# Altium footprint library QFN50P350X350X100_HS-14L.PcbLib: 1 footprints
Each footprint in its own frame and in the unit in brackets; x right, y up, seen from the top. Pads: shape width x height; smd on the part's side, far side on the other; paste and mask are expansions set on the pad; w line width, h text height; cw(c..) or ccw(c..) is an arc to the next point about the centre after c.
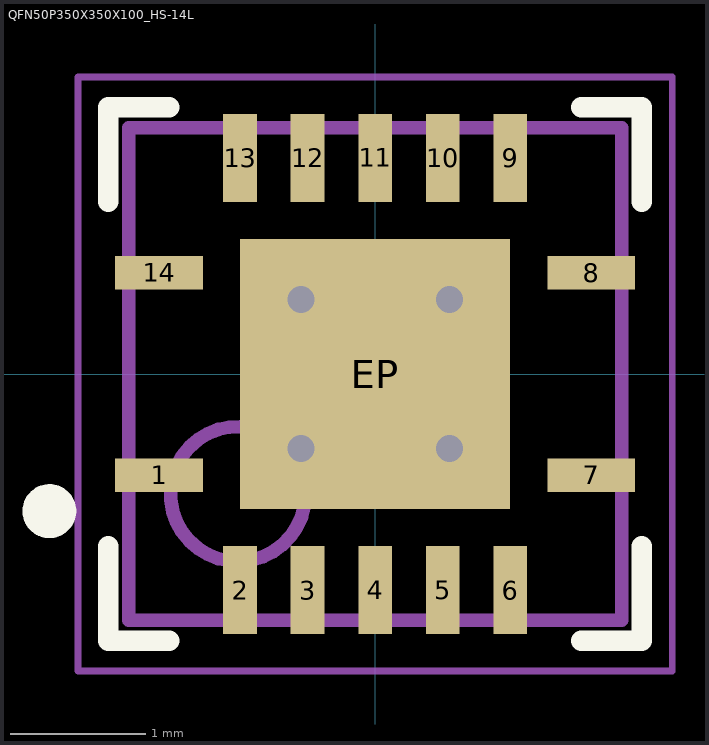
[diagram p0: the footprint, top view; thin cyan lines are the x and y axes]

## QFN50P350X350X100_HS-14L [mm] "QFN, 14-Leads, Body 3.50x3.50mm, Pitch 0.50mm/1.50mm, Thermal Pad 2.00x2.00mm, IPC High Density"
height 1
pads (15):
  rect 0.65x0.25 smd: 1(-1.6,-0.75) 7(1.6,-0.75) 8(1.6,0.75) 14(-1.6,0.75)
  rect 0.25x0.65 smd: 2(-1,-1.6) 3(-0.5,-1.6) 4(0,-1.6) 5(0.5,-1.6) 6(1,-1.6) 9(1,1.6) 10(0.5,1.6) 11(0,1.6) 12(-0.5,1.6) 13(-1,1.6)
  rect 2x2 smd: EP(0,0)
via -0.55,0.55 diameter 0.5 hole 0.2
via 0.55,0.55 diameter 0.5 hole 0.2
via -0.55,-0.55 diameter 0.5 hole 0.2
via 0.55,-0.55 diameter 0.5 hole 0.2
Top Overlay:
  circle w0.2: c-2.413,-1.016 r0.1
  lines w0.152: -1.975,-1.275 -1.975,-1.975 -1.525,-1.975 ; -1.975,1.275 -1.975,1.975 -1.525,1.975 ; 1.525,-1.975 1.975,-1.975 1.975,-1.275 ; 1.525,1.975 1.975,1.975 1.975,1.275
Mechanical 13:
  circle w0.1: c-1.016,-0.889 r0.5
  lines w0.1: -1.825,-1.825 -1.825,1.825 1.825,1.825 1.825,-1.825 -1.825,-1.825
Mechanical 15:
  lines w0.05: -0.5,0 0.5,0 ; 0,-0.5 0,0.5 ; -2.2,-2.2 -2.2,2.2 2.2,2.2 2.2,-2.2 -2.2,-2.2
3D body: height 0.85, standoff -0.05, extent -1.76,-1.76 1.76,1.76